# Altium schematic symbol library MCP6001UT-IOT.Schlib: 1 symbol
Pins are listed as number, name and electrical type; pins without a type are passive.

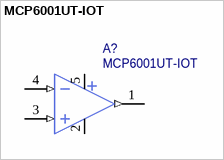
[diagram p0: symbol MCP6001UT-IOT]

## MCP6001UT-IOT
designator A?
pins: 1 OUT2 (out), 2 GND (power), 3 IN+2 (in), 4 IN-2 (in), 5 VDD (power)